# Altium footprint library SamacSys.PcbLib: 10 footprints
Each footprint in its own frame and in the unit in brackets; x right, y up, seen from the top. Pads: shape width x height; smd on the part's side, far side on the other; paste and mask are expansions set on the pad; w line width, h text height; cw(c..) or ccw(c..) is an arc to the next point about the centre after c.
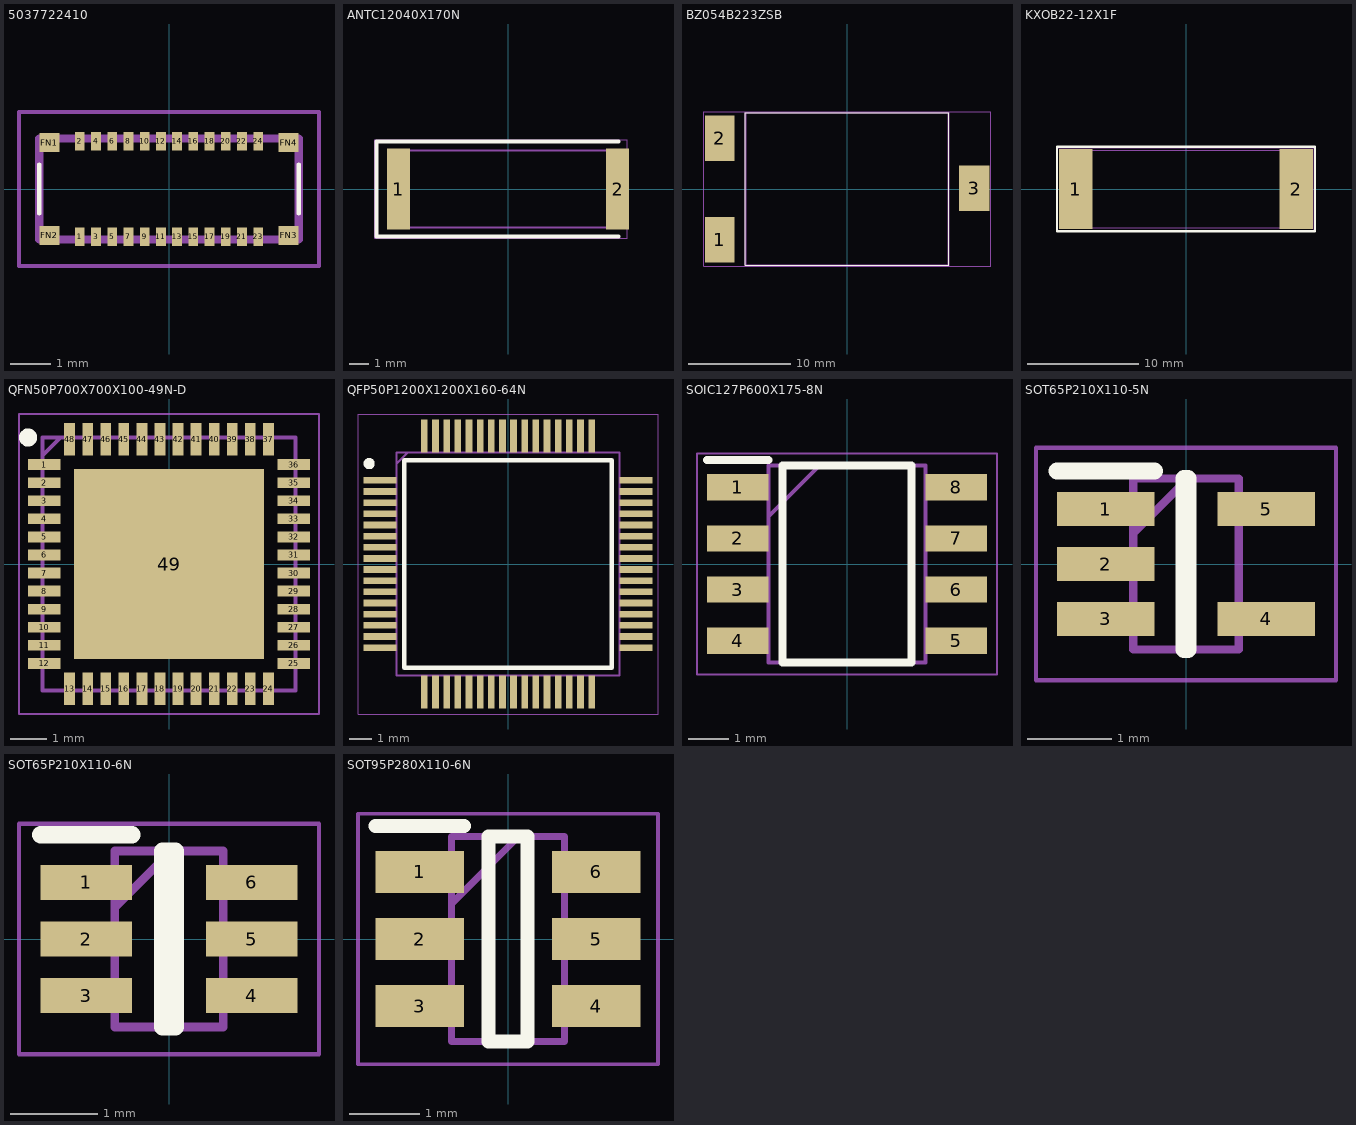
[diagram p0: the footprints below, top view; thin cyan lines are the x and y axes]

## 5037722410 [mm]
pads (28):
  rect 0.24x0.45 smd: 1(-2.2,-1.175) 2(-2.2,1.175) 3(-1.8,-1.175) 4(-1.8,1.175) 5(-1.4,-1.175) 6(-1.4,1.175) 7(-1,-1.175) 8(-1,1.175) 9(-0.6,-1.175) 10(-0.6,1.175) 11(-0.2,-1.175) 12(-0.2,1.175) 13(0.2,-1.175) 14(0.2,1.175) 15(0.6,-1.175) 16(0.6,1.175) 17(1,-1.175) 18(1,1.175) 19(1.4,-1.175) 20(1.4,1.175) 21(1.8,-1.175) 22(1.8,1.175) 23(2.2,-1.175) 24(2.2,1.175)
  rect 0.5x0.47 smd: FN1(-2.95,1.145) FN2(-2.95,-1.145) FN3(2.95,-1.145) FN4(2.95,1.145)
Top Overlay:
  lines w0.1: -3.2,-0.6 -3.2,0.6 ; 3.2,-0.6 3.2,0.6
Mechanical 13:
  lines w0.2: -3.2,-1.25 3.2,-1.25 3.2,1.25 -3.2,1.25 -3.2,-1.25
Mechanical 15:
  lines w0.1: -3.7,-1.9 3.7,-1.9 3.7,1.9 -3.7,1.9 -3.7,-1.9

## ANTC12040X170N [mm]
pads (2):
  rect 1.2x4.2 smd: 1(-5.715,0) 2(5.715,0)
Top Overlay:
  lines w0.2: 5.75,-2.475 -6.85,-2.475 -6.85,2.475 5.75,2.475
Top Solder:
  rectangle: -6.4,-2.2 -5,2.2
  rectangle: 5,-2.2 6.4,2.2
Mechanical 13:
  lines w0.1: -6,1.25 -5.25,2 ; -6,-2 -6,2 6,2 6,-2 -6,-2
Mechanical 15:
  lines w0.05: -6.95,-2.575 -6.95,2.575 6.223,2.575 6.223,-2.575 -6.95,-2.575
3D body "ACAG1204-868-T.stp": height 1.7, standoff 0, extent -6,-2 6,2

## BZ054B223ZSB [mm]
pads (3):
  rect 2.9x4.5 smd: 1(-12.525,-5) 2(-12.525,5)
  rect 3x4.5 smd: 3(12.475,0.08)
Top Overlay:
  lines w0.1: -10.025,-7.5 -10.025,7.5 9.975,7.5 9.975,-7.5 -10.025,-7.5
Mechanical 13:
  lines w0.2: -10.025,-7.5 -10.025,7.5 9.975,7.5 9.975,-7.5 -10.025,-7.5
Mechanical 15:
  lines w0.1: -14.097,-7.62 -14.097,7.62 14.097,7.62 14.097,-7.62 -14.097,-7.62
3D body "Cap.stp": height 3.01, standoff 0.01, extent -12.5,-7.5 13.5,7.5

## KXOB22-12X1F [mm]
pads (2):
  rect 3x7.15 smd: 1(-9.9,0) 2(9.9,0)
Top Overlay:
  lines w0.2: -11.6,-3.8 11.6,-3.8 11.6,3.8 -11.6,3.8 -11.6,-3.8
Mechanical 13:
  lines w0.1: -11,2 -9.5,3.5 ; -11,-3.5 -11,3.5 11,3.5 11,-3.5 -11,-3.5
Mechanical 15:
  lines w0.05: -11.5,-3.7 -11.5,3.7 11.5,3.7 11.5,-3.7 -11.5,-3.7
3D body "IXYS KXOB22-12X1L.stp": height 1.84, standoff 0.01, extent -11.006,-3.5 11.006,3.516

## QFN50P700X700X100-49N-D [mm]
pads (49):
  rect 0.9x0.3 smd: 1(-3.45,2.75) 2(-3.45,2.25) 3(-3.45,1.75) 4(-3.45,1.25) 5(-3.45,0.75) 6(-3.45,0.25) 7(-3.45,-0.25) 8(-3.45,-0.75) 9(-3.45,-1.25) 10(-3.45,-1.75) 11(-3.45,-2.25) 12(-3.45,-2.75) 25(3.45,-2.75) 26(3.45,-2.25) 27(3.45,-1.75) 28(3.45,-1.25) 29(3.45,-0.75) 30(3.45,-0.25) 31(3.45,0.25) 32(3.45,0.75) 33(3.45,1.25) 34(3.45,1.75) 35(3.45,2.25) 36(3.45,2.75)
  rect 0.3x0.9 smd: 13(-2.75,-3.45) 14(-2.25,-3.45) 15(-1.75,-3.45) 16(-1.25,-3.45) 17(-0.75,-3.45) 18(-0.25,-3.45) 19(0.25,-3.45) 20(0.75,-3.45) 21(1.25,-3.45) 22(1.75,-3.45) 23(2.25,-3.45) 24(2.75,-3.45) 37(2.75,3.45) 38(2.25,3.45) 39(1.75,3.45) 40(1.25,3.45) 41(0.75,3.45) 42(0.25,3.45) 43(-0.25,3.45) 44(-0.75,3.45) 45(-1.25,3.45) 46(-1.75,3.45) 47(-2.25,3.45) 48(-2.75,3.45)
  rect 5.25x5.25 smd: 49(0,0)
Top Overlay:
  circle w0.25: c-3.9,3.5 r0.125
Mechanical 13:
  lines w0.1: -3.5,3 -3,3.5 ; -3.5,-3.5 -3.5,3.5 3.5,3.5 3.5,-3.5 -3.5,-3.5
Mechanical 15:
  lines w0.05: -4.15,-4.15 -4.15,4.15 4.15,4.15 4.15,-4.15 -4.15,-4.15
3D body "MSP430FR5994IRGZT.stp": height 1, standoff 0, extent -3.55,-3.55 3.55,3.55

## QFP50P1200X1200X160-64N [mm]
pads (64):
  rect 1.475x0.3 smd: 1(-5.738,3.75) 2(-5.738,3.25) 3(-5.738,2.75) 4(-5.738,2.25) 5(-5.738,1.75) 6(-5.738,1.25) 7(-5.738,0.75) 8(-5.738,0.25) 9(-5.738,-0.25) 10(-5.738,-0.75) 11(-5.738,-1.25) 12(-5.738,-1.75) 13(-5.738,-2.25) 14(-5.738,-2.75) 15(-5.738,-3.25) 16(-5.738,-3.75) 33(5.738,-3.75) 34(5.738,-3.25) 35(5.738,-2.75) 36(5.738,-2.25) 37(5.738,-1.75) 38(5.738,-1.25) 39(5.738,-0.75) 40(5.738,-0.25) 41(5.738,0.25) 42(5.738,0.75) 43(5.738,1.25) 44(5.738,1.75) 45(5.738,2.25) 46(5.738,2.75) 47(5.738,3.25) 48(5.738,3.75)
  rect 0.3x1.475 smd: 17(-3.75,-5.738) 18(-3.25,-5.738) 19(-2.75,-5.738) 20(-2.25,-5.738) 21(-1.75,-5.738) 22(-1.25,-5.738) 23(-0.75,-5.738) 24(-0.25,-5.738) 25(0.25,-5.738) 26(0.75,-5.738) 27(1.25,-5.738) 28(1.75,-5.738) 29(2.25,-5.738) 30(2.75,-5.738) 31(3.25,-5.738) 32(3.75,-5.738) 49(3.75,5.738) 50(3.25,5.738) 51(2.75,5.738) 52(2.25,5.738) 53(1.75,5.738) 54(1.25,5.738) 55(0.75,5.738) 56(0.25,5.738) 57(-0.25,5.738) 58(-0.75,5.738) 59(-1.25,5.738) 60(-1.75,5.738) 61(-2.25,5.738) 62(-2.75,5.738) 63(-3.25,5.738) 64(-3.75,5.738)
Top Overlay:
  circle w0.25: c-6.225,4.5 r0.125
  lines w0.2: -4.65,-4.65 -4.65,4.65 4.65,4.65 4.65,-4.65 -4.65,-4.65
Mechanical 13:
  lines w0.1: -5,4.5 -4.5,5 ; -5,-5 -5,5 5,5 5,-5 -5,-5
Mechanical 15:
  lines w0.05: -6.725,-6.725 -6.725,6.725 6.725,6.725 6.725,-6.725 -6.725,-6.725
3D body "MSP430FR5994IPM.stp": height 1.6, standoff 0, extent -6,-6 6,6

## SOIC127P600X175-8N [mm]
pads (8):
  rect 1.525x0.65 smd: 1(-2.712,1.905) 2(-2.712,0.635) 3(-2.712,-0.635) 4(-2.712,-1.905) 5(2.712,-1.905) 6(2.712,-0.635) 7(2.712,0.635) 8(2.712,1.905)
Top Overlay:
  lines w0.2: -3.475,2.58 -1.95,2.58 ; -1.6,-2.45 1.6,-2.45 1.6,2.45 -1.6,2.45 -1.6,-2.45
Mechanical 13:
  lines w0.1: -1.95,1.18 -0.68,2.45 ; -1.95,-2.45 1.95,-2.45 1.95,2.45 -1.95,2.45 -1.95,-2.45
Mechanical 15:
  lines w0.05: -3.725,-2.75 3.725,-2.75 3.725,2.75 -3.725,2.75 -3.725,-2.75
3D body "NE555DR.stp": height 1.75, standoff 0, extent -3,-2.45 3,2.45

## SOT65P210X110-5N [mm]
pads (5):
  rect 1.15x0.4 smd: 1(-0.95,0.65) 2(-0.95,0) 3(-0.95,-0.65) 4(0.95,-0.65) 5(0.95,0.65)
Top Overlay:
  lines w0.2: -1.525,1.1 -0.375,1.1 ; -0.025,-1.012 -0.025,1.012 0.025,1.012 0.025,-1.012 -0.025,-1.012
Mechanical 13:
  lines w0.1: -0.625,0.362 0.025,1.012 ; -0.625,-1.012 -0.625,1.012 0.625,1.012 0.625,-1.012 -0.625,-1.012
Mechanical 15:
  lines w0.05: -1.775,-1.375 -1.775,1.375 1.775,1.375 1.775,-1.375 -1.775,-1.375
3D body "MIC841HYC5-TR.stp": height 1.1, standoff 0, extent -1.05,-1.012 1.05,1.012

## SOT65P210X110-6N [mm]
pads (6):
  rect 1.05x0.4 smd: 1(-0.95,0.65) 2(-0.95,0) 3(-0.95,-0.65) 4(0.95,-0.65) 5(0.95,0) 6(0.95,0.65)
Top Overlay:
  lines w0.2: -1.475,1.2 -0.425,1.2 ; -0.075,-1.012 -0.075,1.012 0.075,1.012 0.075,-1.012 -0.075,-1.012
Mechanical 13:
  lines w0.1: -0.625,0.362 0.025,1.012 ; -0.625,-1.012 -0.625,1.012 0.625,1.012 0.625,-1.012 -0.625,-1.012
Mechanical 15:
  lines w0.05: -1.725,-1.325 -1.725,1.325 1.725,1.325 1.725,-1.325 -1.725,-1.325
3D body "SIP32431DR3-T1GE3.stp": height 1.1, standoff 0, extent -1.05,-1.012 1.05,1.012

## SOT95P280X110-6N [mm]
pads (6):
  rect 1.25x0.6 smd: 1(-1.25,0.95) 2(-1.25,0) 3(-1.25,-0.95) 4(1.25,-0.95) 5(1.25,0) 6(1.25,0.95)
Top Overlay:
  lines w0.2: -1.875,1.6 -0.625,1.6 ; -0.275,-1.45 -0.275,1.45 0.275,1.45 0.275,-1.45 -0.275,-1.45
Mechanical 13:
  lines w0.1: -0.8,0.5 0.15,1.45 ; -0.8,-1.45 -0.8,1.45 0.8,1.45 0.8,-1.45 -0.8,-1.45
Mechanical 15:
  lines w0.05: -2.125,-1.775 -2.125,1.775 2.125,1.775 2.125,-1.775 -2.125,-1.775
3D body "TPS61070DDCR.stp": height 1.1, standoff 0, extent -1.4,-1.45 1.4,1.45